# Altium footprint library ESC.PcbLib: 51 footprints (part 3 of 4)
Each footprint in its own frame and in the unit in brackets; x right, y up, seen from the top. Pads: shape width x height; smd on the part's side, far side on the other; paste and mask are expansions set on the pad; w line width, h text height; cw(c..) or ccw(c..) is an arc to the next point about the centre after c.
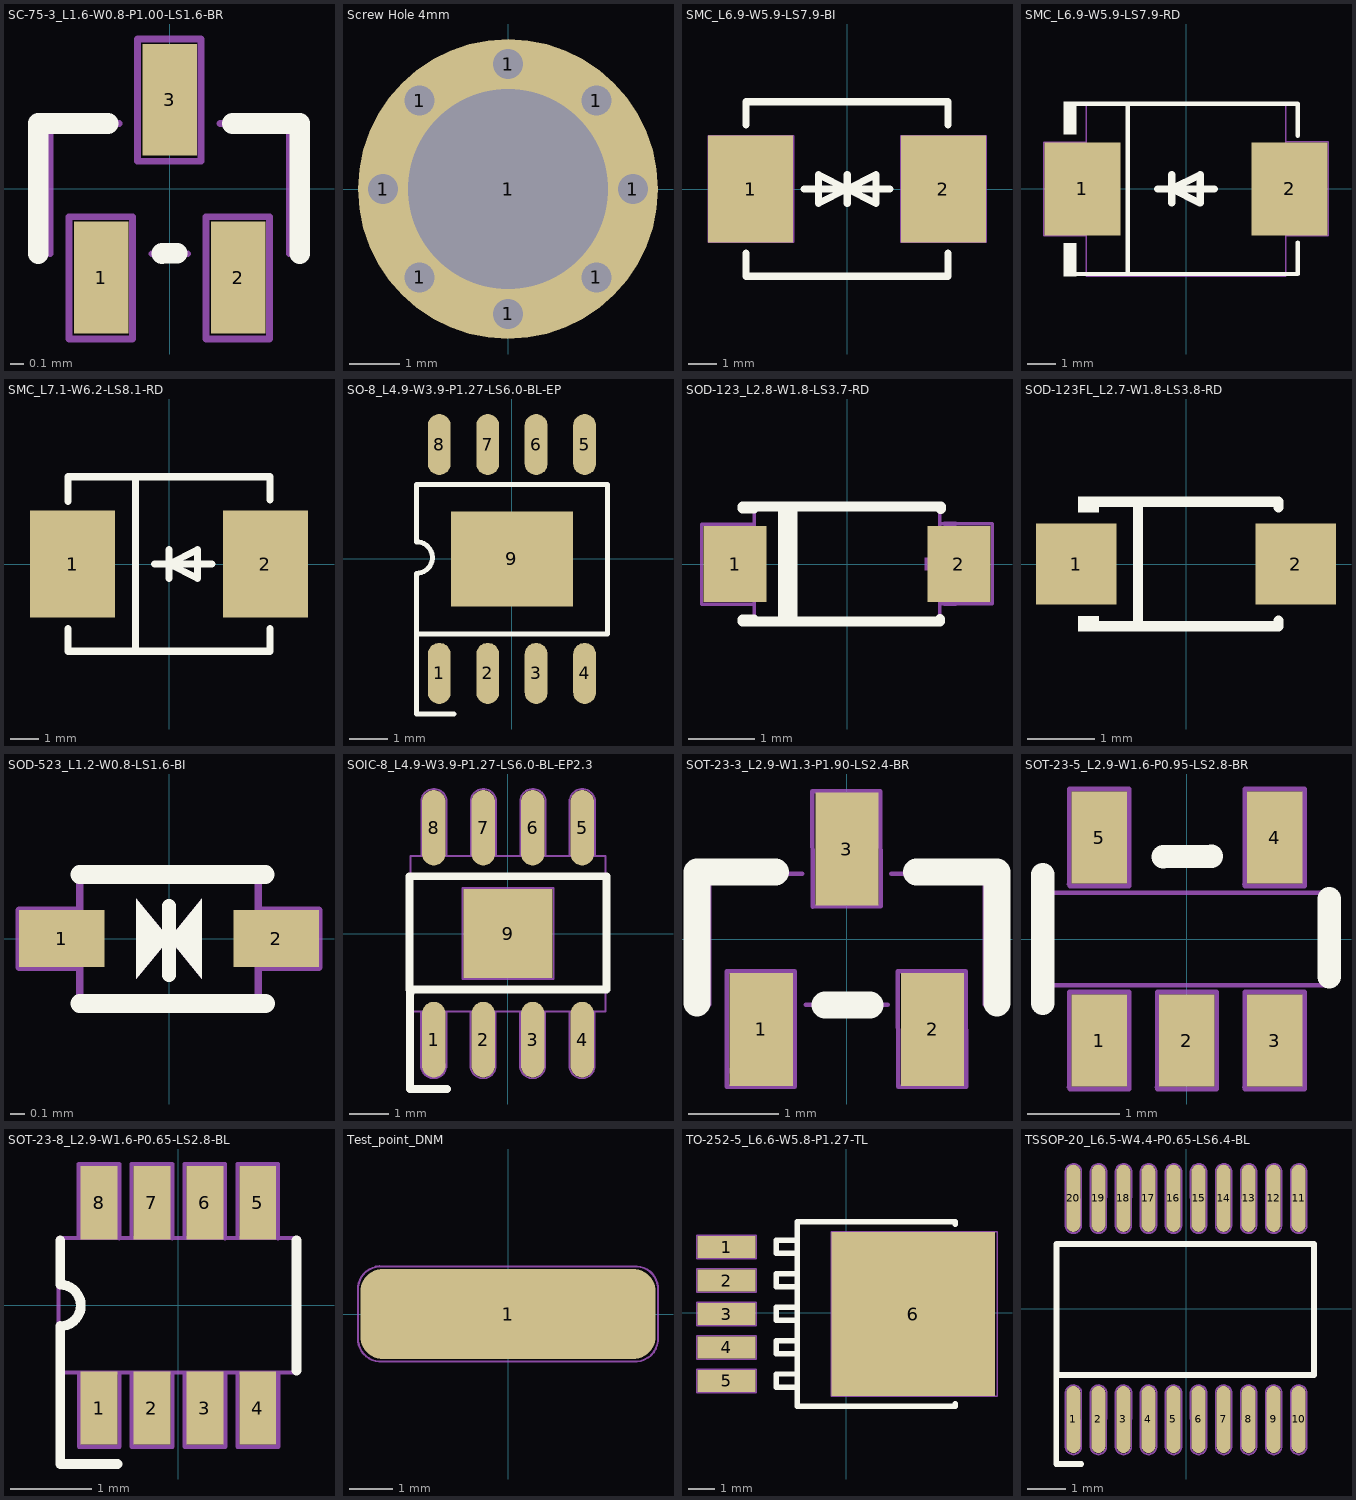
[diagram p2: the footprints below, top view; thin cyan lines are the x and y axes]

## SC-75-3_L1.6-W0.8-P1.00-LS1.6-BR [mm] "SOT-416"
height 0.025
pads (3):
  rect 0.4x0.816 smd paste+0 mask+0.051: 1(-0.5,-0.65) 2(0.5,-0.65) 3(0,0.65)
Top Overlay:
  lines w0.152: -0.961,-0.476 -0.961,0.476 -0.451,0.476 ; -0.057,-0.474 0.055,-0.472 ; 0.46,0.476 0.95,0.476 0.95,-0.476
Mechanical 2:
  lines w0.05: -0.876,-0.476 -0.876,0.476 -0.369,0.476 ; -0.131,-0.476 0.131,-0.476 ; 0.369,0.476 0.876,0.476 0.876,-0.476 ; -0.735,-1.099 -0.735,-0.206 -0.272,-0.206 -0.272,-1.099 -0.735,-1.099 ; -0.235,0.201 -0.235,1.094 0.228,1.094 0.228,0.201 -0.235,0.201 ; 0.265,-1.099 0.265,-0.206 0.728,-0.206 0.728,-1.099 0.265,-1.099
3D body "User Library-SOT-416.step": height 0.78, standoff -0.02, extent -0.8,-0.8 0.8,0.8

## Screw Hole 4mm [mm]
height 0.025
pads (9):
  round 0.6 hole 0.6: 1(-2.5,0) 1(-1.768,-1.768) 1(-1.768,1.768) 1(0,-2.5) 1(0,2.5) 1(1.768,-1.768) 1(1.768,1.768) 1(2.5,0)
  round 6 hole 4: 1(0,0)

## SMC_L6.9-W5.9-LS7.9-BI [mm]
pads (2):
  rect 3.03x3.82 smd paste+0 mask+0.051: 1(-3.435,0) 2(3.435,0)
Top Overlay:
  lines w0.254: -3.6,-2.286 -3.6,-3.11 3.6,-3.11 3.6,-2.286 ; -3.6,2.286 -3.6,3.11 3.6,3.11 3.6,2.286 ; -1.524,0 0.508,0 ; -0.496,0 1.536,0 ; 0,-0.508 0,0.508 0,0 ; 0.012,0.508 0.012,-0.508 0.012,0 ; 0,0 -1.016,0.508 -1.016,-0.508 0,0 ; 0.012,0 1.028,0.508 1.028,-0.508 0.012,0
Mechanical 2:
  lines w0.05: -4.953,-1.905 -1.905,-1.905 -1.905,1.905 -4.953,1.905 -4.953,-1.905 ; 1.917,-1.905 4.965,-1.905 4.965,1.905 1.917,1.905 1.917,-1.905

## SMC_L6.9-W5.9-LS7.9-RD [mm] "SMC(DO-214AB)"
height 2.62
pads (2):
  rect 2.7x3.3 smd paste+0 mask+0.051: 1(-3.686,0) 2(3.686,0)
Top Overlay:
  region: -3.9,3.102 -3.9,1.935 -4.357,1.935 -4.357,3.102
  region: -3.9,-3.102 -3.9,-1.935 -4.357,-1.935 -4.357,-3.102
  lines w0.152: -3.976,-3.026 3.976,-3.026 3.976,-1.907 ; -3.976,3.026 3.976,3.026 3.976,1.893 ; -2.069,-3.026 -2.069,3.026
  lines w0.254: -1.016,0 1.016,0 ; -0.508,0.508 -0.508,-0.508 -0.508,0 ; -0.508,0 0.508,-0.508 0.508,0.508 -0.508,0
Mechanical 2:
  lines w0.05: -3.557,-1.671 -5.058,-1.671 -5.058,1.665 -3.552,1.665 ; 3.552,-1.665 5.058,-1.665 5.058,1.671 3.557,1.671 ; -3.555,-3.11 -3.555,3.026 3.555,3.026 3.555,-3.11 -3.555,-3.11
Mechanical 15:
  region: 2.794,-1.475 2.794,1.475 2.351,1.475 2.351,-1.475
3D body "User Library-DIOM8261X24.step": height 2.4, standoff 0.03, extent -4.215,-3 3.915,3.1

## SMC_L7.1-W6.2-LS8.1-RD [mm] "DO-214AB"
height 2.62
pads (2):
  rect 3.03x3.82 smd paste+0 mask+0.051: 1(-3.435,0) 2(3.435,0)
Top Overlay:
  lines w0.254: -3.6,-2.297 -3.6,-3.11 3.6,-3.11 3.6,-2.292 ; -3.6,2.234 -3.6,3.11 3.6,3.11 3.6,2.277 ; -1.192,-3.11 -1.192,3.11 ; -0.508,0 1.524,0 ; 0,0.508 0,-0.508 0,0 ; 0,0 1.016,-0.508 1.016,0.508 0,0
Mechanical 15:
  region: -4.33,0.254 -2.552,0.254 -2.552,-0.254 -4.33,-0.254
  region: 3.181,-0.895 3.181,0.883 3.689,0.883 3.689,-0.895
  region: 2.54,0.254 4.318,0.254 4.318,-0.254 2.54,-0.254
3D body "User Library-DO-214AB-SMC.step": height 2.5, standoff 0.05, extent -3.95,-2.95 3.85,2.95

## SO-8_L4.9-W3.9-P1.27-LS6.0-BL-EP [mm] "SO-8-EP"
pads (9):
  oval 0.6x1.6 smd paste+0 mask+0.051: 1(-1.905,-3) 2(-0.635,-3) 3(0.635,-3) 4(1.905,-3) 5(1.905,3) 6(0.635,3) 7(-0.635,3) 8(-1.905,3)
  rect 3.2x2.5 smd paste+0 mask+0.051: 9(0,0)
Top Overlay:
  lines w0.129: -2.5,0.45 cw(c-2.5,0.037) -2.499,-0.376 ; -2.5,-0.375 -2.5,-1.962 ; -2.5,0.45 -2.5,1.949 2.5,1.949 2.5,-1.962 -2.5,-1.962 ; -1.524,-4.064 -2.5,-4.064 -2.5,-1.962
Mechanical 15:
  circle w0.2: c-1.898,-3.235 r0.1
3D body "User Library-so8-3.step": height 1.7, standoff 0, extent -2.435,-3.008 2.465,2.992

## SOD-123_L2.8-W1.8-LS3.7-RD [mm] "SOD-123"
height 1.3
pads (2):
  rect 0.95x1.15 smd paste+0 mask+0.051: 1(-1.693,0) 2(1.693,0)
Top Overlay:
  lines w0.152: -0.97,-0.866 -0.97,0.866 ; -0.827,-0.866 -0.827,0.866 ; 1.406,-0.833 1.406,-0.866 -1.406,-0.866 ; 1.418,0.833 1.418,0.866 -1.406,0.866 ; -1.406,-0.866 -1.406,-0.843 -1.58,-0.843 -1.58,-0.866 -1.406,-0.866 ; -1.406,0.866 -1.406,0.841 -1.58,0.841 -1.58,0.866 -1.406,0.866
Mechanical 2:
  lines w0.05: -1.4,0.6 -2.2,0.6 -2.2,-0.608 -1.397,-0.608 ; 1.397,0.608 2.2,0.608 2.2,-0.6 1.4,-0.6 ; -1.4,-0.9 1.4,-0.9 1.4,0.9 -1.4,0.9 -1.4,-0.9
Mechanical 15:
  region: 1.651,0.635 1.651,-0.629 1.461,-0.629 1.461,0.635
  region: 1.935,0.098 1.935,-0.092 1.177,-0.092 1.177,0.098
  region: -2.03,0.095 -2.03,-0.095 -1.272,-0.095 -1.272,0.095
3D body "User Library-SOD-123FL CASE 498.step": height 0.95, standoff 0, extent -1.8,-0.822 1.8,0.828

## SOD-123FL_L2.7-W1.8-LS3.8-RD [mm] "SOD-123FL"
pads (2):
  rect 1.2x1.2 smd paste+0 mask+0.051: 1(-1.635,0) 2(1.635,0)
Top Overlay:
  region: -1.3,1.002 -1.3,0.774 -1.605,0.774 -1.605,1.002
  region: -1.3,-1.002 -1.3,-0.78 -1.605,-0.78 -1.605,-1.002
  lines w0.152: -1.376,-0.926 1.376,-0.926 1.376,-0.84 ; -1.376,0.926 1.376,0.926 1.376,0.843 ; -0.717,-0.876 -0.717,0.876
Mechanical 15:
  region: -2.032,0.127 -2.032,-0.065 -1.264,-0.065 -1.264,0.127
  region: 2.035,0.096 2.035,-0.096 1.267,-0.096 1.267,0.096
  region: 1.747,-0.384 1.555,-0.384 1.555,0.384 1.747,0.384
3D body "PMDU.stp": height 0.9, standoff 0, extent -1.81,-0.85 1.81,0.85

## SOD-523_L1.2-W0.8-LS1.6-BI [mm] "9.4A@8/20us 18.6V 7.8V 5V SOD-523 TVS Diodes RoHS"
height 0.68
pads (2):
  rect 0.6x0.4 smd paste+0 mask+0.051: 1(-0.75,0) 2(0.75,0)
Top Overlay:
  region: 0,0 0.229,0.279 0.229,-0.279
  region: 0,0 -0.229,-0.279 -0.229,0.279
  lines w0.1: 0,-0.254 0,0.229
  lines w0.13: -0.626,0.449 0.674,0.449 ; -0.624,-0.454 0.676,-0.454
Mechanical 2:
  lines w0.05: -0.65,-0.2 -1.05,-0.2 -1.05,0.2 -0.65,0.2 ; 0.65,-0.2 1.05,-0.2 1.05,0.2 0.65,0.2 ; -0.625,-0.425 -0.625,0.425 0.625,0.425 0.625,-0.425 -0.625,-0.425
Mechanical 15:
  region: -0.229,0.279 -0.229,-0.279 0,0
  region: 0.229,0.279 0.229,-0.279 0,0
3D body "LESD5D5.0CT1G--3DModel-STEP-510211.STEP": height 0.7, standoff 0, extent -0.8,-0.413 0.8,0.387

## SOIC-8_L4.9-W3.9-P1.27-LS6.0-BL-EP2.3 [mm]
height 1.7
pads (9):
  oval 0.602x1.941 smd paste+0 mask+0.05: 1(-1.905,-2.72) 2(-0.635,-2.72) 3(0.635,-2.72) 4(1.905,-2.72) 5(1.905,2.72) 6(0.635,2.72) 7(-0.635,2.72) 8(-1.905,2.72)
  rect 2.29x2.29 smd paste+0 mask+0.05: 9(0,0)
Top Overlay:
  lines w0.2: -2.5,-1.521 -2.52,-1.521 -2.52,-3.989 -1.565,-3.989 ; -2.526,-1.437 -2.526,1.474 2.526,1.474 2.526,-1.437 -2.526,-1.437
Mechanical 2:
  lines w0.05: -2.23,-2 -2.23,-3.44 ccw(c-1.907,-3.388) -1.585,-3.44 -1.585,-2 -1.58,-2 ; -1.58,2 -1.58,3.44 ccw(c-1.903,3.388) -2.225,3.44 -2.225,2 ; -1.16,-1.165 -1.17,-1.165 ; -0.96,-2 -0.96,-3.44 ccw(c-0.637,-3.388) -0.315,-3.44 -0.315,-2 -0.31,-2 ; -0.96,2 -0.955,2 -0.955,3.44 cw(c-0.633,3.388) -0.31,3.44 -0.31,2 ; 0.31,-2 0.31,-3.44 ccw(c0.633,-3.388) 0.955,-3.44 0.955,-2 0.96,-2 ; 0.31,2 0.315,2 0.315,3.44 cw(c0.637,3.388) 0.96,3.44 0.96,2 ; 1.58,-2 1.58,-3.44 ccw(c1.903,-3.388) 2.225,-3.44 2.225,-2 ; 1.58,2 1.585,2 1.585,3.44 cw(c1.907,3.388) 2.23,3.44 2.23,2 ; -2.225,2 -2.23,2 -2.225,2 ; -1.17,-1.165 -1.17,1.17 1.175,1.17 1.175,-1.165 -1.17,-1.165 ; 2.225,-2 2.23,-2 2.225,-2 ; -2.5,-2 -2.5,2 2.5,2 2.5,-2 -2.5,-2
Mechanical 15:
  circle w0.3: c-1.905,-3.4 r0.15
3D body "SO8_SOT96-1_NXP.step": height 1.76, standoff 0, extent -2.502,-3.099 2.502,3.099

## SOT-23-3_L2.9-W1.3-P1.90-LS2.4-BR [mm] "DIODE ARR SCHOTTKY 30V SOT-23"
height 1.1
pads (3):
  rect 0.7x1.25 smd paste+0 mask+0.051: 1(-0.95,-1) 2(0.95,-1) 3(0,1)
Top Overlay:
  lines w0.3: -1.662,-0.708 -1.662,0.745 -0.791,0.745 ; -0.242,-0.728 0.255,-0.728 ; 0.774,0.745 1.665,0.745 1.665,-0.708
Mechanical 2:
  lines w0.05: -1.526,-0.726 -1.526,0.726 -0.495,0.726 ; -1.33,-1.638 -0.577,-1.634 -0.581,-0.357 -1.334,-0.357 -1.33,-1.622 ; -0.455,-0.726 0.455,-0.726 ; -0.38,0.362 0.373,0.366 0.369,1.643 -0.384,1.643 -0.38,0.377 ; 0.495,0.726 1.526,0.726 1.526,-0.726 ; 0.57,-1.638 1.323,-1.634 1.319,-0.357 0.566,-0.357 0.57,-1.622
Mechanical 15:
  circle w0.2: c-1.1,-1.46 r0.1
3D body "sot-23.stp": height 1.2, standoff -0.1, extent -1.518,-1.248 1.522,1.352

## SOT-23-5_L2.9-W1.6-P0.95-LS2.8-BR [mm] "SOT-23-5"
height 1.1
pads (5):
  rect 0.6x1 smd paste+0 mask+0.05: 1(-0.95,-1.1) 2(0,-1.1) 3(0.95,-1.1) 4(0.95,1.1) 5(-0.95,1.1)
Top Overlay:
  lines w0.254: -1.564,-0.697 -1.564,0.7 ; -0.257,0.89 0.267,0.895 ; 1.545,-0.407 1.545,0.438
Mechanical 2:
  lines w0.05: -1.525,0.5 1.525,0.5 1.525,-0.422 1.525,-0.422 1.525,-0.5 -1.524,-0.5 -1.524,0.5 ; -1.277,-1.605 -1.273,-1.605 -1.273,-0.574 -0.626,-0.574 -0.626,-1.625 -1.271,-1.625 ; -1.277,0.595 -1.273,0.595 -1.273,1.626 -0.626,1.626 -0.626,0.576 -1.271,0.576 ; -0.327,-1.605 -0.323,-1.605 -0.323,-0.574 0.324,-0.574 0.324,-1.625 -0.321,-1.625 ; 0.623,-1.605 0.627,-1.605 0.627,-0.574 1.274,-0.574 1.274,-1.625 0.629,-1.625 ; 0.623,0.595 0.627,0.595 0.627,1.626 1.274,1.626 1.274,0.576 0.629,0.576
3D body "CircuitWorks-SOT-23-5.step": height 1.1, standoff 0, extent -1.55,-1.35 1.45,1.15

## SOT-23-8_L2.9-W1.6-P0.65-LS2.8-BL [mm] "TSOT-23-8"
height 1.1
pads (8):
  rect 0.45x0.9 smd paste+0 mask+0.051: 1(-0.975,-1.26) 2(-0.325,-1.26) 3(0.325,-1.26) 4(0.975,-1.26) 5(0.975,1.26) 6(0.325,1.26) 7(-0.325,1.26) 8(-0.975,1.26)
Top Overlay:
  lines w0.12: -1.451,-0.255 ccw(c-1.453,0) -1.45,0.254 -1.45,0.8 ; -1.45,-0.254 -1.45,-0.8 -1.45,-1.947 -0.75,-1.947 ; 1.45,-0.8 1.45,0.8
Mechanical 2:
  lines w0.05: -1.224,0.834 -1.224,1.735 -0.727,1.735 -0.727,0.824 ; -1.223,-0.824 -1.223,-1.735 -0.726,-1.735 -0.726,-0.834 ; -0.574,0.834 -0.574,1.735 -0.077,1.735 -0.077,0.824 ; -0.573,-0.824 -0.573,-1.735 -0.076,-1.735 -0.076,-0.834 ; 0.077,-0.824 0.077,-1.735 0.574,-1.735 0.574,-0.834 ; 0.076,0.834 0.076,1.735 0.573,1.735 0.573,0.824 ; 0.726,0.834 0.726,1.735 1.223,1.735 1.223,0.824 ; 0.727,-0.824 0.727,-1.735 1.224,-1.735 1.224,-0.834 ; -1.475,-0.825 -1.475,0.825 1.475,0.825 1.475,-0.825 -1.475,-0.825
3D body "User Library-SOT-23-8 Thin.step": height 1.1, standoff 0, extent -1.45,-1.48 1.45,1.478

## Test_point_DNM [mil] "Test point do not mount"
pads (1):
  rrect50% 271x83 smd: 1(0,0)
Mechanical 2:
  lines w1.97: -137.56,-24.91 ccw(c-117.12,-23.03) -115.24,-43.47 114.76,-43.47 ccw(c116.94,-22.88) 137.53,-25.06 137.53,24.94 ccw(c116.98,23.14) 115.18,43.69 -114.82,43.69 ccw(c-116.89,23.02) -137.56,25.09 -137.56,-24.91
  text "TP?" at 0,0 h39.37

## TO-252-5_L6.6-W5.8-P1.27-TL [mil] "TO-252-5"
pads (6):
  rect 86.61x32.5 smd paste+0 mask+2: 1(-178.97,98.03) 2(-178.97,48.02) 3(-178.97,-1.98) 4(-178.97,-51.98) 5(-178.97,-101.97)
  rect 244.5x244.5 smd paste+0 mask+2: 6(100.03,-1.98)
Top Overlay:
  lines w7.9: -77.37,-111.38 -104.87,-111.38 -104.87,-91.78 -77.37,-91.78 ; -77.37,-61.38 -104.87,-61.38 -104.87,-41.77 -77.37,-41.77 ; -77.37,-11.38 -104.87,-11.38 -104.87,8.22 -77.37,8.22 ; -77.37,38.62 -104.87,38.62 -104.87,58.23 -77.37,58.23 ; -77.37,88.62 -104.87,88.62 -104.87,108.22 -77.37,108.22 ; 162.83,-135.88 162.83,-139.78 -73.37,-139.78 -73.37,135.82 162.83,135.82 162.83,131.93
Mechanical 2:
  lines w1.97: -223.23,-119.27 -134.35,-119.27 -134.35,-84.57 -223.23,-84.57 -223.23,-119.27 ; -223.23,-69.27 -134.35,-69.27 -134.35,-34.57 -223.23,-34.57 -223.23,-69.27 ; -223.23,-19.27 -134.35,-19.27 -134.35,15.43 -223.23,15.43 -223.23,-19.27 ; -223.23,30.73 -134.35,30.73 -134.35,65.43 -223.23,65.43 -223.23,30.73 ; -223.23,80.73 -134.35,80.73 -134.35,115.43 -223.23,115.43 -223.23,80.73 ; -22.92,-125 225,-125 225,121.04 -22.92,121.04 -22.92,-125
Mechanical 15:
  circle w11.81: c-201.47,97.03 r5.91
3D body "User Library-DPAK-5-1.step": height 94.49, standoff -0.22, extent -202.26,-134.03 225.54,129.75

## TSSOP-20_L6.5-W4.4-P0.65-LS6.4-BL [mm]
pads (20):
  oval 0.364x1.742 smd paste+0 mask+0.05: 1(-2.925,-2.871) 2(-2.275,-2.871) 3(-1.625,-2.871) 4(-0.975,-2.871) 5(-0.325,-2.871) 6(0.325,-2.871) 7(0.975,-2.871) 8(1.625,-2.871) 9(2.275,-2.871) 10(2.925,-2.871) 11(2.925,2.871) 12(2.275,2.871) 13(1.625,2.871) 14(0.975,2.871) 15(0.325,2.871) 16(-0.325,2.871) 17(-0.975,2.871) 18(-1.625,2.871) 19(-2.275,2.871) 20(-2.925,2.871)
Top Overlay:
  lines w0.152: -3.37,-1.715 -3.37,-4.027 -2.719,-4.027 ; -3.362,-1.715 -3.362,1.683 3.326,1.683 3.326,-1.715 -3.362,-1.715
Mechanical 2:
  lines w0.05: -3.326,-1.771 -3.326,1.733 3.326,1.733 3.326,-1.771 -3.326,-1.771 ; -3.129,-2.167 cw(c-2.922,-2.188) -2.719,-2.151 -2.721,-3.589 cw(c-2.924,-3.573) -3.127,-3.598 -3.129,-2.167 ; -3.129,3.575 cw(c-2.922,3.554) -2.719,3.591 -2.721,2.153 cw(c-2.924,2.169) -3.127,2.144 -3.129,3.575 ; -2.479,-2.167 cw(c-2.272,-2.188) -2.069,-2.151 -2.071,-3.589 cw(c-2.274,-3.573) -2.477,-3.598 -2.479,-2.167 ; -2.479,3.575 cw(c-2.272,3.554) -2.069,3.591 -2.071,2.153 cw(c-2.274,2.169) -2.477,2.144 -2.479,3.575 ; -1.829,-2.167 cw(c-1.622,-2.188) -1.419,-2.151 -1.421,-3.589 cw(c-1.624,-3.573) -1.827,-3.598 -1.829,-2.167 ; -1.829,3.575 cw(c-1.622,3.554) -1.419,3.591 -1.421,2.153 cw(c-1.624,2.169) -1.827,2.144 -1.829,3.575 ; -1.179,-2.167 cw(c-0.972,-2.188) -0.769,-2.151 -0.771,-3.589 cw(c-0.974,-3.573) -1.177,-3.598 -1.179,-2.167 ; -1.179,3.575 cw(c-0.972,3.554) -0.769,3.591 -0.771,2.153 cw(c-0.974,2.169) -1.177,2.144 -1.179,3.575 ; -0.529,-2.167 cw(c-0.322,-2.188) -0.119,-2.151 -0.121,-3.589 cw(c-0.324,-3.573) -0.527,-3.598 -0.529,-2.167 ; -0.529,3.575 cw(c-0.322,3.554) -0.119,3.591 -0.121,2.153 cw(c-0.324,2.169) -0.527,2.144 -0.529,3.575 ; 0.121,-2.167 cw(c0.328,-2.188) 0.531,-2.151 0.529,-3.589 cw(c0.326,-3.573) 0.123,-3.598 0.121,-2.167 ; 0.121,3.575 cw(c0.328,3.554) 0.531,3.591 0.529,2.153 cw(c0.326,2.169) 0.123,2.144 0.121,3.575 ; 0.771,-2.167 cw(c0.978,-2.188) 1.181,-2.151 1.179,-3.589 cw(c0.976,-3.573) 0.773,-3.598 0.771,-2.167 ; 0.771,3.575 cw(c0.978,3.554) 1.181,3.591 1.179,2.153 cw(c0.976,2.169) 0.773,2.144 0.771,3.575 ; 1.421,-2.167 cw(c1.628,-2.188) 1.831,-2.151 1.829,-3.589 cw(c1.626,-3.573) 1.423,-3.598 1.421,-2.167 ; 1.421,3.575 cw(c1.628,3.554) 1.831,3.591 1.829,2.153 cw(c1.626,2.169) 1.423,2.144 1.421,3.575 ; 2.071,-2.167 cw(c2.278,-2.188) 2.481,-2.151 2.479,-3.589 cw(c2.276,-3.573) 2.073,-3.598 2.071,-2.167 ; 2.071,3.575 cw(c2.278,3.554) 2.481,3.591 2.479,2.153 cw(c2.276,2.169) 2.073,2.144 2.071,3.575 ; 2.721,-2.167 cw(c2.928,-2.188) 3.131,-2.151 3.129,-3.589 cw(c2.926,-3.573) 2.723,-3.598 2.721,-2.167 ; 2.721,3.575 cw(c2.928,3.554) 3.131,3.591 3.129,2.153 cw(c2.926,2.169) 2.723,2.144 2.721,3.575
3D body "?????? _ TSSOP-20.stp": height 0.65, standoff -0.67, extent -3.3,-3.063 3.2,3.352